# EAGLE library part 74*534 (library 74ttl-din)
8-bit D type FLIP FLOP
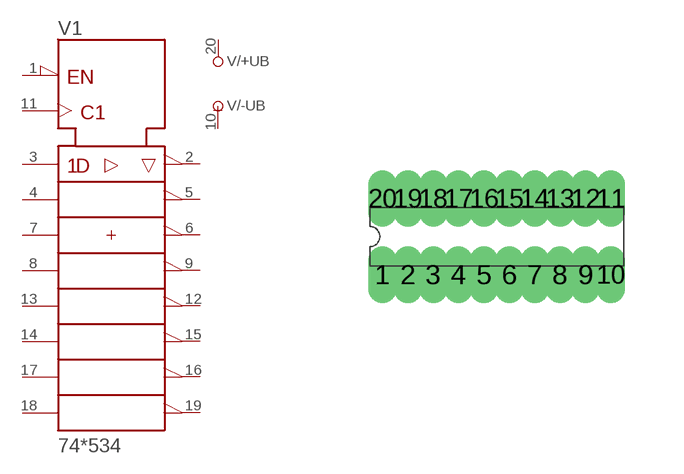
[diagram p104: symbol with the pads of DIL20; footprint DIL20]

Designator prefix V; gates /+UB=+UB /-UB=-UB 1=534

## 74534N  [DIL20]
1  1:!OC  in
2  1:!1Q  hiz
3  1:1D  in
4  1:2D  in
5  1:!2Q  hiz
6  1:!3Q  hiz
7  1:3D  in
8  1:4D  in
9  1:!4Q  hiz
10  /-UB:-UB  pwr
11  1:CLK  in
12  1:!5Q  hiz
13  1:5D  in
14  1:6D  in
15  1:!6Q  hiz
16  1:!7Q  hiz
17  1:7D  in
18  1:8D  in
19  1:!8Q  hiz
20  /+UB:+UB  pwr

## Footprint DIL20 (pad centres in mm)
Dual In Line Package
drill 0.203 long: 1 -2.857,-0.953; 2 -2.223,-0.953; 3 -1.587,-0.953; 4 -0.953,-0.953; 5 -0.318,-0.953; 6 0.318,-0.953; 7 0.953,-0.953; 8 1.587,-0.953; 9 2.223,-0.953; 10 2.857,-0.953; 11 2.857,0.953; 12 2.223,0.953; 13 1.587,0.953; 14 0.953,0.953; 15 0.318,0.953; 16 -0.318,0.953; 17 -0.953,0.953; 18 -1.587,0.953; 19 -2.223,0.953; 20 -2.857,0.953